# Altium footprint library PWM_Controller_Half_Bridge_IR2110.PcbLib: 1 footprints
Each footprint in its own frame and in the unit in brackets; x right, y up, seen from the top. Pads: shape width x height; smd on the part's side, far side on the other; paste and mask are expansions set on the pad; w line width, h text height; cw(c..) or ccw(c..) is an arc to the next point about the centre after c.
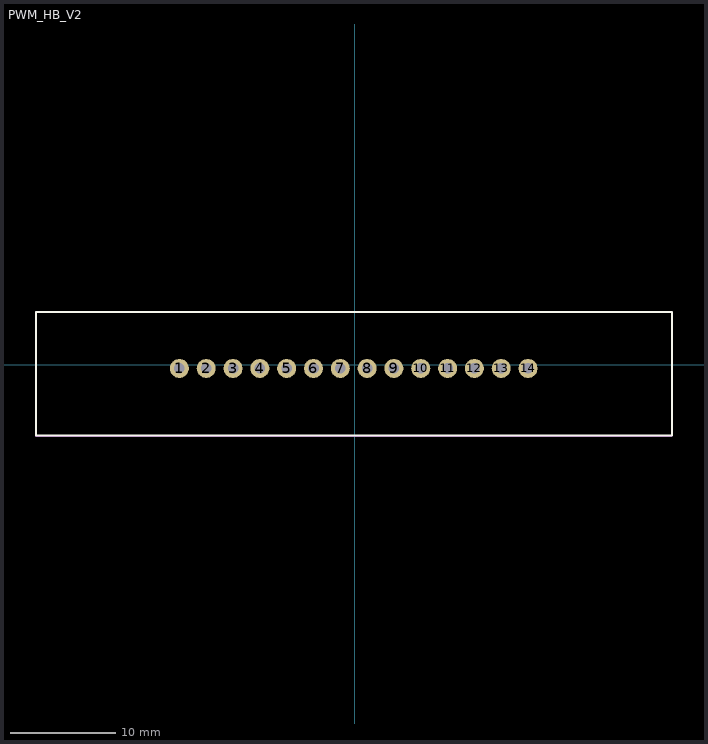
[diagram p0: the footprint, top view; thin cyan lines are the x and y axes]

## PWM_HB_V2 [mm]
height 1
pads (14):
  round 1.8 hole 1: 1(-16.6,-0.35) 2(-14.06,-0.35) 3(-11.52,-0.35) 4(-8.98,-0.35) 5(-6.44,-0.35) 6(-3.9,-0.35) 7(-1.36,-0.35) 8(1.18,-0.35) 9(3.72,-0.35) 10(6.26,-0.35) 11(8.8,-0.35) 12(11.34,-0.35) 13(13.88,-0.35) 14(16.42,-0.35)
Top Overlay:
  lines w0.2: -30.2,-6.7 30.075,-6.7 30.075,5 -30.2,5 -30.2,-6.7
Top Assembly:
  lines w0.1: -30.2,-6.75 -30.2,5 30.05,5 30.05,-6.75 -30.2,-6.75
  text "'.Designator'" at -0.925,-0.35 h0.7
3D body "PWM_Controller_Half_Bridge_IR2110.step": height 37, standoff 1.08, extent -30.175,-6.725 29.825,4.869